# EAGLE library part TYCO-2-1734839-0 (library jt-con-tyco)
Tyco 2-1734839-0 20-pin top-mount FPC
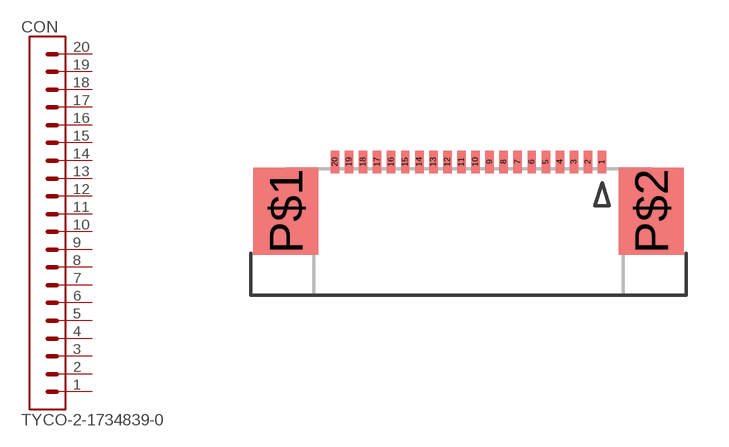
[diagram p5: symbol with the pads of TYCO-2-173489-0; footprint TYCO-2-173489-0]

Designator prefix CON

## TYCO-2-1734839-0  [TYCO-2-173489-0]
1  1
2  2
3  3
4  4
5  5
6  6
7  7
8  8
9  9
10  10
11  11
12  12
13  13
14  14
15  15
16  16
17  17
18  18
19  19
20  20

## Footprint TYCO-2-173489-0 (pad centres in mm)
Tyco 2-173489-0 20-pin top-mount FPC
smd 0.3 x 0.8: 1 4.75,0.25; 2 4.25,0.25; 3 3.75,0.25; 4 3.25,0.25; 5 2.75,0.25; 6 2.25,0.25; 7 1.75,0.25; 8 1.25,0.25; 9 0.75,0.25; 10 0.25,0.25; 11 -0.25,0.25; 12 -0.75,0.25; 13 -1.25,0.25; 14 -1.75,0.25; 15 -2.25,0.25; 16 -2.75,0.25; 17 -3.25,0.25; 18 -3.75,0.25; 19 -4.25,0.25; 20 -4.75,0.25
smd 2.3 x 3.1: P$1 -6.5,-1.5; P$2 6.5,-1.5